# Altium integrated library TI Power Management Battery Management.IntLib: 949 symbols (part 23 of 62)
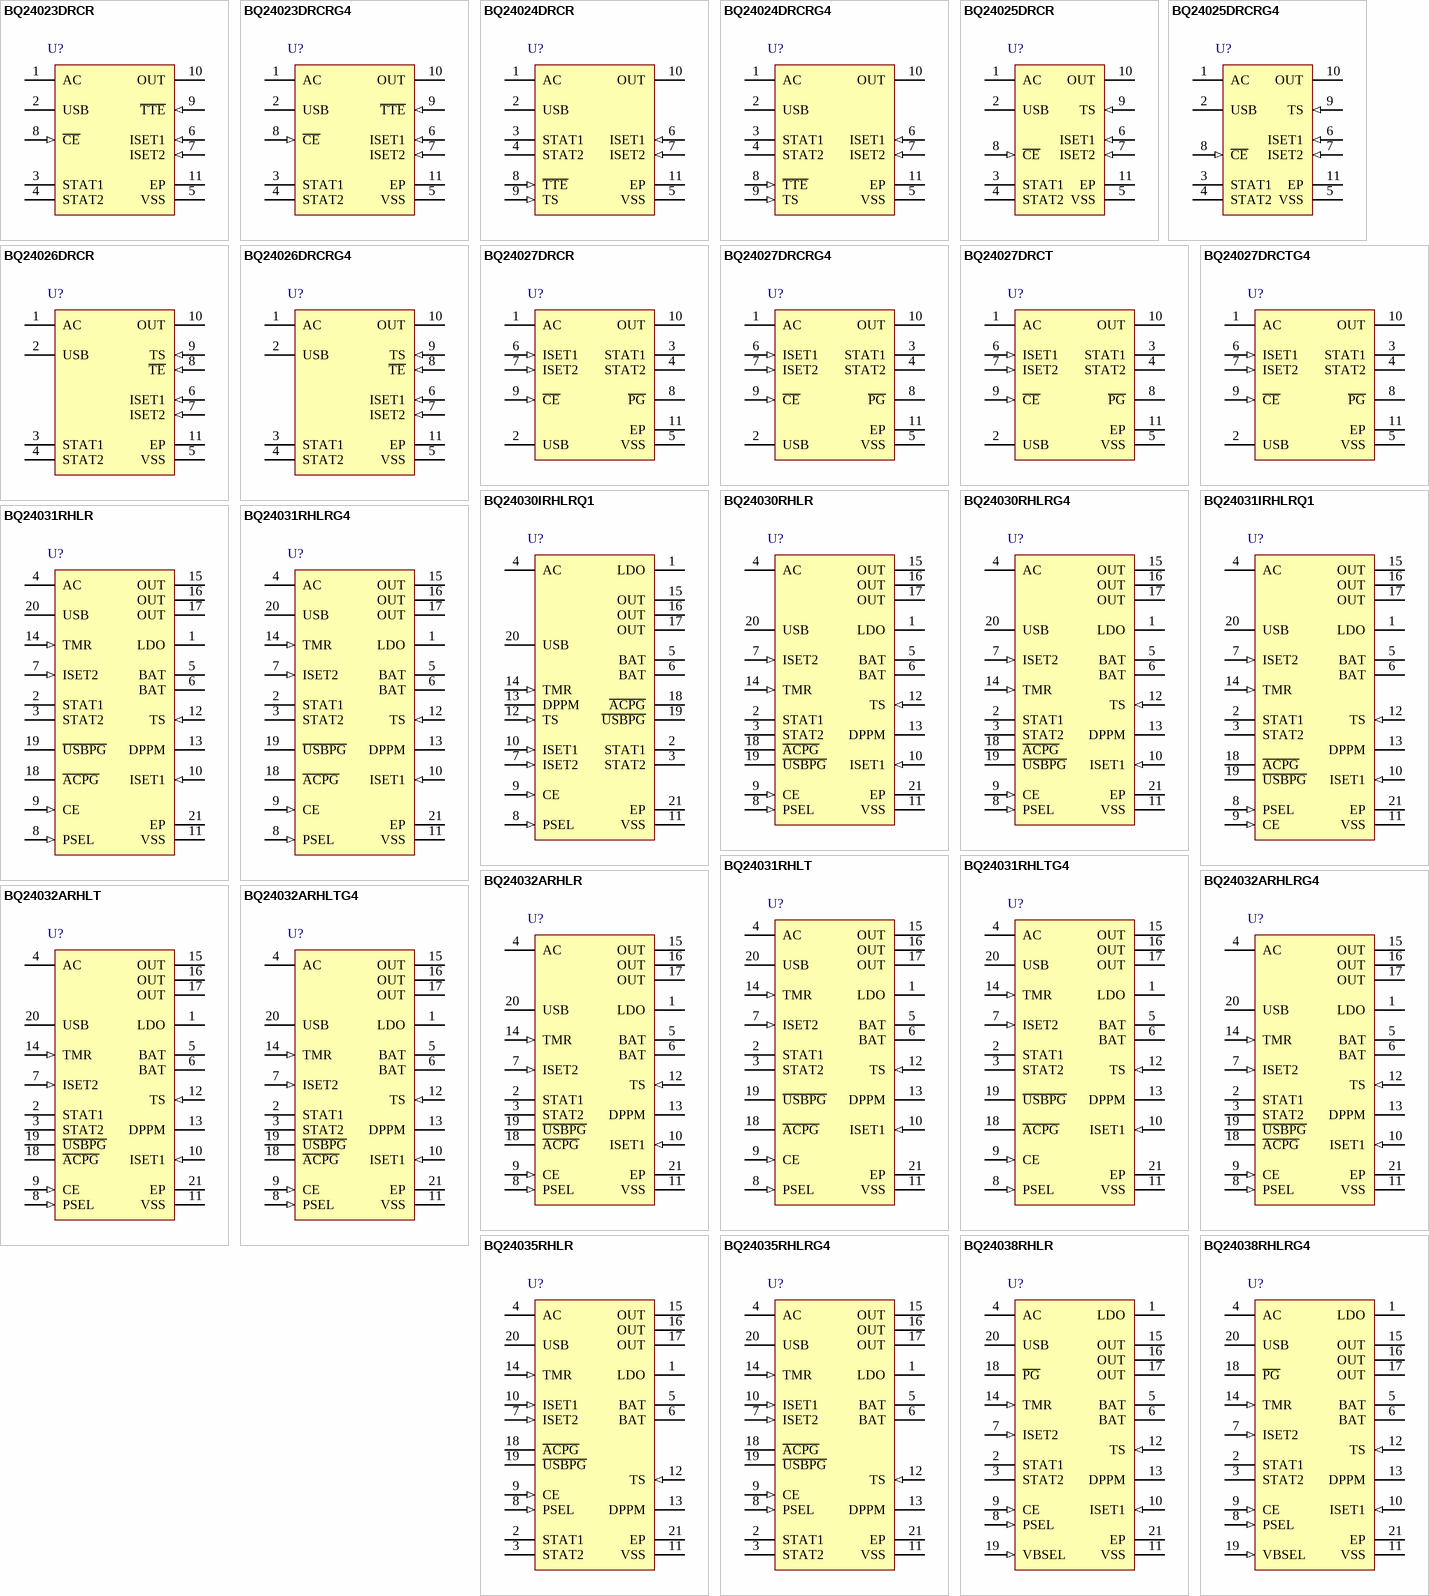
[diagram p56: symbols BQ24023DRCR to BQ24038RHLRG4]

## BQ24031RHLR
designator U?
Dual Input Li-Ion Charger with Dynamic Power-Path Management, Output Regulated to 6 V Battery, 4.3 V, -40 to 125 degC, 20-pin QFN (RHL), Green (RoHS & no Sb/Br); PartNumber: BQ24031RHLR; Manufacturer: Texas Instruments; Lead Acid: N; Li-Ion: Y; SubFamily: Battery Charge Management; Vin(Min)(V): 4.3; DatasheetVersion: SLUS618H; PackageVersion: revJ, Dec-2011; PackageReference: RHL20-3050X2050TP; PackageDescription: 20-Leads Plastic Quad Flatpack No-Lead, 4.5 x 3.5 x 0.9 mm Body, 0.5 mm Pitch, Exposed Pad; Supplier 1: Digi-Key; Supplier Part Number 1: 296-21372-2-ND; Supplier 2: Digi-Key; Supplier Part Number 2: 296-21372-1-ND; Supplier 3: Digi-Key; Supplier Part Number 3: 296-21372-6-ND; Supplier 4: Newark; Supplier Part Number 4: 27M2179; Supplier 5: Mouser; Supplier Part Number 5: 595-BQ24031RHLR; Eco-Plan: Green (RoHS & no Sb/Br); Li-Polymer: Y; NiCd: N; NiMH: N; Over Voltage Protection: N; Mounting Technology: Surface Mount; ComponentLink1Description: Datasheet; ComponentLink1URL: http://www.ti.com/general/docs/lit/getliterature.tsp?genericPartNumber=BQ24031&fileType=pdf
footprint RHL20-3050X2050TP (QFN, 20-Leads, Body 4.5x3.5mm, Pitch 0.5mm, Thermal Pad 3.05x2.05mm, TI Recommended)
pins: 1 LDO (power) "3.3-V LDO regulator", 2 STAT1 (oc) "Charge status output 1 (open-drain)", 3 STAT2 (oc) "Charge status output 2 (open-drain)", 4 AC (power) "Charge input voltage from AC adapter", 5 BAT (power) "Battery input and output.", 6 BAT (power) "Battery input and output.", 7 ISET2 (in) "Charge current set point for USB port. (High = 500 mA, Low = 100 mA)", 8 PSEL (in) "Power source selection input (Low for USB, High for AC)", 9 CE (in) "Chip enable input (active high)", 10 ISET1 (in) "Charge current set point for AC input and precharge and termination set point for both AC and USB", 11 VSS (power) "Ground input (the thermal pad on the underside of the package) There is an internal electrical connection between the exposed thermal pad and VSS pin of the device. The exposed thermal pad must be connected to the same (See Datasheet)", 12 TS (in) "Temperature sense input", 13 DPPM "Dynamic power-path management set point (account for scale factor)", 14 TMR (in) "Timer program input programmed by resistor. Disable fast-charge safety timer and termination by tying TMR to LDO.", 15 OUT (power) "Output terminal to the system", 16 OUT (power) "Output terminal to the system", 17 OUT (power) "Output terminal to the system", 18 ~{ACPG} (oc) "AC power-good status output (open-drain).", 19 ~{USBPG} (oc) "USB power-good status output (open-drain).", 20 USB (power) "USB charge input voltage", 21 EP (power) "Exposed thermal pad"

## BQ24031RHLRG4
designator U?
Dual Input Li-Ion Charger with Dynamic Power-Path Management, Output Regulated to 6 V Battery, 4.3 V, -40 to 125 degC, 20-pin QFN (RHL), Green (RoHS & no Sb/Br); PartNumber: BQ24031RHLRG4; Manufacturer: Texas Instruments; Lead Acid: N; Li-Ion: Y; SubFamily: Battery Charge Management; Vin(Min)(V): 4.3; DatasheetVersion: SLUS618H; PackageVersion: revJ, Dec-2011; PackageReference: RHL20-3050X2050TP; PackageDescription: 20-Leads Plastic Quad Flatpack No-Lead, 4.5 x 3.5 x 0.9 mm Body, 0.5 mm Pitch, Exposed Pad; Supplier 1: Digi-Key; Supplier Part Number 1: BQ24031RHLRG4-ND; Supplier 2: Newark; Supplier Part Number 2: 27M2180; Supplier 3: Mouser; Supplier Part Number 3: 595-BQ24031RHLRG4; Eco-Plan: Green (RoHS & no Sb/Br); Li-Polymer: Y; NiCd: N; NiMH: N; Over Voltage Protection: N; Mounting Technology: Surface Mount; ComponentLink1Description: Datasheet; ComponentLink1URL: http://www.ti.com/general/docs/lit/getliterature.tsp?genericPartNumber=BQ24031&fileType=pdf
footprint RHL20-3050X2050TP (QFN, 20-Leads, Body 4.5x3.5mm, Pitch 0.5mm, Thermal Pad 3.05x2.05mm, TI Recommended)
pins: 1 LDO (power) "3.3-V LDO regulator", 2 STAT1 (oc) "Charge status output 1 (open-drain)", 3 STAT2 (oc) "Charge status output 2 (open-drain)", 4 AC (power) "Charge input voltage from AC adapter", 5 BAT (power) "Battery input and output.", 6 BAT (power) "Battery input and output.", 7 ISET2 (in) "Charge current set point for USB port. (High = 500 mA, Low = 100 mA)", 8 PSEL (in) "Power source selection input (Low for USB, High for AC)", 9 CE (in) "Chip enable input (active high)", 10 ISET1 (in) "Charge current set point for AC input and precharge and termination set point for both AC and USB", 11 VSS (power) "Ground input (the thermal pad on the underside of the package) There is an internal electrical connection between the exposed thermal pad and VSS pin of the device. The exposed thermal pad must be connected to the same (See Datasheet)", 12 TS (in) "Temperature sense input", 13 DPPM "Dynamic power-path management set point (account for scale factor)", 14 TMR (in) "Timer program input programmed by resistor. Disable fast-charge safety timer and termination by tying TMR to LDO.", 15 OUT (power) "Output terminal to the system", 16 OUT (power) "Output terminal to the system", 17 OUT (power) "Output terminal to the system", 18 ~{ACPG} (oc) "AC power-good status output (open-drain).", 19 ~{USBPG} (oc) "USB power-good status output (open-drain).", 20 USB (power) "USB charge input voltage", 21 EP (power) "Exposed thermal pad"

## BQ24031RHLT
designator U?
Dual Input Li-Ion Charger with Dynamic Power-Path Management, Output Regulated to 6 V Battery, 4.3 V, -40 to 125 degC, 20-pin QFN (RHL), Green (RoHS & no Sb/Br); PartNumber: BQ24031RHLT; Manufacturer: Texas Instruments; Lead Acid: N; Li-Ion: Y; SubFamily: Battery Charge Management; Vin(Min)(V): 4.3; DatasheetVersion: SLUS618H; PackageVersion: revJ, Dec-2011; PackageReference: RHL20-3050X2050TP; PackageDescription: 20-Leads Plastic Quad Flatpack No-Lead, 4.5 x 3.5 x 0.9 mm Body, 0.5 mm Pitch, Exposed Pad; Supplier 1: Digi-Key; Supplier Part Number 1: BQ24031RHLT-ND; Supplier 2: Newark; Supplier Part Number 2: 30M3419; Supplier 3: Mouser; Supplier Part Number 3: 595-BQ24031RHLT; Eco-Plan: Green (RoHS & no Sb/Br); Li-Polymer: Y; NiCd: N; NiMH: N; Over Voltage Protection: N; Mounting Technology: Surface Mount; ComponentLink1Description: Datasheet; ComponentLink1URL: http://www.ti.com/general/docs/lit/getliterature.tsp?genericPartNumber=BQ24031&fileType=pdf
footprint RHL20-3050X2050TP (QFN, 20-Leads, Body 4.5x3.5mm, Pitch 0.5mm, Thermal Pad 3.05x2.05mm, TI Recommended)
pins: 1 LDO (power) "3.3-V LDO regulator", 2 STAT1 (oc) "Charge status output 1 (open-drain)", 3 STAT2 (oc) "Charge status output 2 (open-drain)", 4 AC (power) "Charge input voltage from AC adapter", 5 BAT (power) "Battery input and output.", 6 BAT (power) "Battery input and output.", 7 ISET2 (in) "Charge current set point for USB port. (High = 500 mA, Low = 100 mA)", 8 PSEL (in) "Power source selection input (Low for USB, High for AC)", 9 CE (in) "Chip enable input (active high)", 10 ISET1 (in) "Charge current set point for AC input and precharge and termination set point for both AC and USB", 11 VSS (power) "Ground input (the thermal pad on the underside of the package) There is an internal electrical connection between the exposed thermal pad and VSS pin of the device. The exposed thermal pad must be connected to the same (See Datasheet)", 12 TS (in) "Temperature sense input", 13 DPPM "Dynamic power-path management set point (account for scale factor)", 14 TMR (in) "Timer program input programmed by resistor. Disable fast-charge safety timer and termination by tying TMR to LDO.", 15 OUT (power) "Output terminal to the system", 16 OUT (power) "Output terminal to the system", 17 OUT (power) "Output terminal to the system", 18 ~{ACPG} (oc) "AC power-good status output (open-drain).", 19 ~{USBPG} (oc) "USB power-good status output (open-drain).", 20 USB (power) "USB charge input voltage", 21 EP (power) "Exposed thermal pad"

## BQ24031RHLTG4
designator U?
Dual Input Li-Ion Charger with Dynamic Power-Path Management, Output Regulated to 6 V Battery, 4.3 V, -40 to 125 degC, 20-pin QFN (RHL), Green (RoHS & no Sb/Br); PartNumber: BQ24031RHLTG4; Manufacturer: Texas Instruments; Lead Acid: N; Li-Ion: Y; SubFamily: Battery Charge Management; Vin(Min)(V): 4.3; DatasheetVersion: SLUS618H; PackageVersion: revJ, Dec-2011; PackageReference: RHL20-3050X2050TP; PackageDescription: 20-Leads Plastic Quad Flatpack No-Lead, 4.5 x 3.5 x 0.9 mm Body, 0.5 mm Pitch, Exposed Pad; Supplier 1: Digi-Key; Supplier Part Number 1: BQ24031RHLTG4-ND; Supplier 2: Newark; Supplier Part Number 2: 34M2481; Supplier 3: Mouser; Supplier Part Number 3: 595-BQ24031RHLTG4; Eco-Plan: Green (RoHS & no Sb/Br); Li-Polymer: Y; NiCd: N; NiMH: N; Over Voltage Protection: N; Mounting Technology: Surface Mount; ComponentLink1Description: Datasheet; ComponentLink1URL: http://www.ti.com/general/docs/lit/getliterature.tsp?genericPartNumber=BQ24031&fileType=pdf
footprint RHL20-3050X2050TP (QFN, 20-Leads, Body 4.5x3.5mm, Pitch 0.5mm, Thermal Pad 3.05x2.05mm, TI Recommended)
pins: 1 LDO (power) "3.3-V LDO regulator", 2 STAT1 (oc) "Charge status output 1 (open-drain)", 3 STAT2 (oc) "Charge status output 2 (open-drain)", 4 AC (power) "Charge input voltage from AC adapter", 5 BAT (power) "Battery input and output.", 6 BAT (power) "Battery input and output.", 7 ISET2 (in) "Charge current set point for USB port. (High = 500 mA, Low = 100 mA)", 8 PSEL (in) "Power source selection input (Low for USB, High for AC)", 9 CE (in) "Chip enable input (active high)", 10 ISET1 (in) "Charge current set point for AC input and precharge and termination set point for both AC and USB", 11 VSS (power) "Ground input (the thermal pad on the underside of the package) There is an internal electrical connection between the exposed thermal pad and VSS pin of the device. The exposed thermal pad must be connected to the same (See Datasheet)", 12 TS (in) "Temperature sense input", 13 DPPM "Dynamic power-path management set point (account for scale factor)", 14 TMR (in) "Timer program input programmed by resistor. Disable fast-charge safety timer and termination by tying TMR to LDO.", 15 OUT (power) "Output terminal to the system", 16 OUT (power) "Output terminal to the system", 17 OUT (power) "Output terminal to the system", 18 ~{ACPG} (oc) "AC power-good status output (open-drain).", 19 ~{USBPG} (oc) "USB power-good status output (open-drain).", 20 USB (power) "USB charge input voltage", 21 EP (power) "Exposed thermal pad"

## BQ24032ARHLR
designator U?
Dual Input Li-Ion Charger with Dynamic Power Path, Output regulated to 4.4 V, Vbat 4.2 V, 4.3 V, -40 to 85 degC, 20-pin QFN (RHL), Green (RoHS & no Sb/Br); PartNumber: BQ24032ARHLR; Manufacturer: Texas Instruments; Lead Acid: N; Li-Ion: Y; SubFamily: Battery Charge Management; Vin(Min)(V): 4.3; DatasheetVersion: SLUS618H; PackageVersion: revJ, Dec-2011; PackageReference: RHL20-3050X2050TP; PackageDescription: 20-Leads Plastic Quad Flatpack No-Lead, 4.5 x 3.5 x 0.9 mm Body, 0.5 mm Pitch, Exposed Pad; Supplier 1: Digi-Key; Supplier Part Number 1: 296-18285-2-ND; Supplier 2: Digi-Key; Supplier Part Number 2: 296-18285-1-ND; Supplier 3: Digi-Key; Supplier Part Number 3: 296-18285-6-ND; Supplier 4: Newark; Supplier Part Number 4: 43K9063; Supplier 5: Mouser; Supplier Part Number 5: 595-BQ24032ARHLR; Eco-Plan: Green (RoHS & no Sb/Br); Li-Polymer: Y; NiCd: N; NiMH: N; Over Voltage Protection: N; Mounting Technology: Surface Mount; ComponentLink1Description: Datasheet; ComponentLink1URL: http://www.ti.com/general/docs/lit/getliterature.tsp?genericPartNumber=BQ24032A&fileType=pdf
footprint RHL20-3050X2050TP (QFN, 20-Leads, Body 4.5x3.5mm, Pitch 0.5mm, Thermal Pad 3.05x2.05mm, TI Recommended)
pins: 1 LDO (power) "3.3-V LDO regulator", 2 STAT1 (oc) "Charge status output 1 (open-drain)", 3 STAT2 (oc) "Charge status output 2 (open-drain)", 4 AC (power) "Charge input voltage from AC adapter", 5 BAT (power) "Battery input and output.", 6 BAT (power) "Battery input and output.", 7 ISET2 (in) "Charge current set point for USB port. (High = 500 mA, Low = 100 mA)", 8 PSEL (in) "Power source selection input (Low for USB, High for AC)", 9 CE (in) "Chip enable input (active high)", 10 ISET1 (in) "Charge current set point for AC input and precharge and termination set point for both AC and USB", 11 VSS (power) "Ground input (the thermal pad on the underside of the package) There is an internal electrical connection between the exposed thermal pad and VSS pin of the device. The exposed thermal pad must be connected to the same (See Datasheet)", 12 TS (in) "Temperature sense input", 13 DPPM "Dynamic power-path management set point (account for scale factor)", 14 TMR (in) "Timer program input programmed by resistor. Disable fast-charge safety timer and termination by tying TMR to LDO.", 15 OUT (power) "Output terminal to the system", 16 OUT (power) "Output terminal to the system", 17 OUT (power) "Output terminal to the system", 18 ~{ACPG} (oc) "AC power-good status output (open-drain).", 19 ~{USBPG} (oc) "USB power-good status output (open-drain).", 20 USB (power) "USB charge input voltage", 21 EP "Exposed Thermal Pad"

## BQ24032ARHLRG4
designator U?
Dual Input Li-Ion Charger with Dynamic Power Path, Output regulated to 4.4 V, Vbat 4.2 V, 4.3 V, -40 to 85 degC, 20-pin QFN (RHL), Green (RoHS & no Sb/Br); PartNumber: BQ24032ARHLRG4; Manufacturer: Texas Instruments; Lead Acid: N; Li-Ion: Y; SubFamily: Battery Charge Management; Vin(Min)(V): 4.3; DatasheetVersion: SLUS618H; PackageVersion: revJ, Dec-2011; PackageReference: RHL20-3050X2050TP; PackageDescription: 20-Leads Plastic Quad Flatpack No-Lead, 4.5 x 3.5 x 0.9 mm Body, 0.5 mm Pitch, Exposed Pad; Supplier 1: Digi-Key; Supplier Part Number 1: BQ24032ARHLRG4-ND; Supplier 2: Newark; Supplier Part Number 2: 53K9242; Supplier 3: Mouser; Supplier Part Number 3: 595-BQ24032ARHLRG4; Eco-Plan: Green (RoHS & no Sb/Br); Li-Polymer: Y; NiCd: N; NiMH: N; Over Voltage Protection: N; Mounting Technology: Surface Mount; ComponentLink1Description: Datasheet; ComponentLink1URL: http://www.ti.com/general/docs/lit/getliterature.tsp?genericPartNumber=BQ24032A&fileType=pdf
footprint RHL20-3050X2050TP (QFN, 20-Leads, Body 4.5x3.5mm, Pitch 0.5mm, Thermal Pad 3.05x2.05mm, TI Recommended)
pins: 1 LDO (power) "3.3-V LDO regulator", 2 STAT1 (oc) "Charge status output 1 (open-drain)", 3 STAT2 (oc) "Charge status output 2 (open-drain)", 4 AC (power) "Charge input voltage from AC adapter", 5 BAT (power) "Battery input and output.", 6 BAT (power) "Battery input and output.", 7 ISET2 (in) "Charge current set point for USB port. (High = 500 mA, Low = 100 mA)", 8 PSEL (in) "Power source selection input (Low for USB, High for AC)", 9 CE (in) "Chip enable input (active high)", 10 ISET1 (in) "Charge current set point for AC input and precharge and termination set point for both AC and USB", 11 VSS (power) "Ground input (the thermal pad on the underside of the package) There is an internal electrical connection between the exposed thermal pad and VSS pin of the device. The exposed thermal pad must be connected to the same (See Datasheet)", 12 TS (in) "Temperature sense input", 13 DPPM "Dynamic power-path management set point (account for scale factor)", 14 TMR (in) "Timer program input programmed by resistor. Disable fast-charge safety timer and termination by tying TMR to LDO.", 15 OUT (power) "Output terminal to the system", 16 OUT (power) "Output terminal to the system", 17 OUT (power) "Output terminal to the system", 18 ~{ACPG} (oc) "AC power-good status output (open-drain).", 19 ~{USBPG} (oc) "USB power-good status output (open-drain).", 20 USB (power) "USB charge input voltage", 21 EP "Exposed Thermal Pad"

## BQ24032ARHLT
designator U?
Dual Input Li-Ion Charger with Dynamic Power Path, Output regulated to 4.4 V, Vbat 4.2 V, 4.3 V, -40 to 85 degC, 20-pin QFN (RHL), Green (RoHS & no Sb/Br); PartNumber: BQ24032ARHLT; Manufacturer: Texas Instruments; Lead Acid: N; Li-Ion: Y; SubFamily: Battery Charge Management; Vin(Min)(V): 4.3; DatasheetVersion: SLUS618H; PackageVersion: revJ, Dec-2011; PackageReference: RHL20-3050X2050TP; PackageDescription: 20-Leads Plastic Quad Flatpack No-Lead, 4.5 x 3.5 x 0.9 mm Body, 0.5 mm Pitch, Exposed Pad; Supplier 1: Digi-Key; Supplier Part Number 1: 296-25922-2-ND; Supplier 2: Digi-Key; Supplier Part Number 2: 296-25922-1-ND; Supplier 3: Digi-Key; Supplier Part Number 3: 296-25922-6-ND; Supplier 4: Newark; Supplier Part Number 4: 43K9064; Supplier 5: Mouser; Supplier Part Number 5: 595-BQ24032ARHLT; Eco-Plan: Green (RoHS & no Sb/Br); Li-Polymer: Y; NiCd: N; NiMH: N; Over Voltage Protection: N; Mounting Technology: Surface Mount; ComponentLink1Description: Datasheet; ComponentLink1URL: http://www.ti.com/general/docs/lit/getliterature.tsp?genericPartNumber=BQ24032A&fileType=pdf
footprint RHL20-3050X2050TP (QFN, 20-Leads, Body 4.5x3.5mm, Pitch 0.5mm, Thermal Pad 3.05x2.05mm, TI Recommended)
pins: 1 LDO (power) "3.3-V LDO regulator", 2 STAT1 (oc) "Charge status output 1 (open-drain)", 3 STAT2 (oc) "Charge status output 2 (open-drain)", 4 AC (power) "Charge input voltage from AC adapter", 5 BAT (power) "Battery input and output.", 6 BAT (power) "Battery input and output.", 7 ISET2 (in) "Charge current set point for USB port. (High = 500 mA, Low = 100 mA)", 8 PSEL (in) "Power source selection input (Low for USB, High for AC)", 9 CE (in) "Chip enable input (active high)", 10 ISET1 (in) "Charge current set point for AC input and precharge and termination set point for both AC and USB", 11 VSS (power) "Ground input (the thermal pad on the underside of the package) There is an internal electrical connection between the exposed thermal pad and VSS pin of the device. The exposed thermal pad must be connected to the same (See Datasheet)", 12 TS (in) "Temperature sense input", 13 DPPM "Dynamic power-path management set point (account for scale factor)", 14 TMR (in) "Timer program input programmed by resistor. Disable fast-charge safety timer and termination by tying TMR to LDO.", 15 OUT (power) "Output terminal to the system", 16 OUT (power) "Output terminal to the system", 17 OUT (power) "Output terminal to the system", 18 ~{ACPG} (oc) "AC power-good status output (open-drain).", 19 ~{USBPG} (oc) "USB power-good status output (open-drain).", 20 USB (power) "USB charge input voltage", 21 EP "Exposed Thermal Pad"

## BQ24032ARHLTG4
designator U?
Dual Input Li-Ion Charger with Dynamic Power Path, Output regulated to 4.4 V, Vbat 4.2 V, 4.3 V, -40 to 85 degC, 20-pin QFN (RHL), Green (RoHS & no Sb/Br); PartNumber: BQ24032ARHLTG4; Manufacturer: Texas Instruments; Lead Acid: N; Li-Ion: Y; SubFamily: Battery Charge Management; Vin(Min)(V): 4.3; DatasheetVersion: SLUS618H; PackageVersion: revJ, Dec-2011; PackageReference: RHL20-3050X2050TP; PackageDescription: 20-Leads Plastic Quad Flatpack No-Lead, 4.5 x 3.5 x 0.9 mm Body, 0.5 mm Pitch, Exposed Pad; Supplier 1: Digi-Key; Supplier Part Number 1: BQ24032ARHLTG4-ND; Supplier 2: Newark; Supplier Part Number 2: 58K5581; Supplier 3: Mouser; Supplier Part Number 3: 595-BQ24032ARHLTG4; Eco-Plan: Green (RoHS & no Sb/Br); Li-Polymer: Y; NiCd: N; NiMH: N; Over Voltage Protection: N; Mounting Technology: Surface Mount; ComponentLink1Description: Datasheet; ComponentLink1URL: http://www.ti.com/general/docs/lit/getliterature.tsp?genericPartNumber=BQ24032A&fileType=pdf
footprint RHL20-3050X2050TP (QFN, 20-Leads, Body 4.5x3.5mm, Pitch 0.5mm, Thermal Pad 3.05x2.05mm, TI Recommended)
pins: 1 LDO (power) "3.3-V LDO regulator", 2 STAT1 (oc) "Charge status output 1 (open-drain)", 3 STAT2 (oc) "Charge status output 2 (open-drain)", 4 AC (power) "Charge input voltage from AC adapter", 5 BAT (power) "Battery input and output.", 6 BAT (power) "Battery input and output.", 7 ISET2 (in) "Charge current set point for USB port. (High = 500 mA, Low = 100 mA)", 8 PSEL (in) "Power source selection input (Low for USB, High for AC)", 9 CE (in) "Chip enable input (active high)", 10 ISET1 (in) "Charge current set point for AC input and precharge and termination set point for both AC and USB", 11 VSS (power) "Ground input (the thermal pad on the underside of the package) There is an internal electrical connection between the exposed thermal pad and VSS pin of the device. The exposed thermal pad must be connected to the same (See Datasheet)", 12 TS (in) "Temperature sense input", 13 DPPM "Dynamic power-path management set point (account for scale factor)", 14 TMR (in) "Timer program input programmed by resistor. Disable fast-charge safety timer and termination by tying TMR to LDO.", 15 OUT (power) "Output terminal to the system", 16 OUT (power) "Output terminal to the system", 17 OUT (power) "Output terminal to the system", 18 ~{ACPG} (oc) "AC power-good status output (open-drain).", 19 ~{USBPG} (oc) "USB power-good status output (open-drain).", 20 USB (power) "USB charge input voltage", 21 EP "Exposed Thermal Pad"

## BQ24035RHLR
designator U?
Dual Input Li-Ion Charger with Dynamic Power Path, Output Cutoff at 6 V, Vbat 4.2 V, 4.3 V, -40 to 85 degC, 20-pin QFN (RHL), Green (RoHS & no Sb/Br); PartNumber: BQ24035RHLR; Manufacturer: Texas Instruments; Lead Acid: N; Li-Ion: Y; SubFamily: Battery Charge Management; Vin(Min)(V): 4.3; DatasheetVersion: SLUS618H; PackageVersion: revJ, Dec-2011; PackageReference: RHL20-3050X2050TP; PackageDescription: 20-Leads Plastic Quad Flatpack No-Lead, 4.5 x 3.5 x 0.9 mm Body, 0.5 mm Pitch, Exposed Pad; Supplier 1: Digi-Key; Supplier Part Number 1: 296-17803-2-ND; Supplier 2: Digi-Key; Supplier Part Number 2: 296-17803-1-ND; Supplier 3: Digi-Key; Supplier Part Number 3: 296-17803-6-ND; Supplier 4: Newark; Supplier Part Number 4: 24K4390; Supplier 5: Mouser; Supplier Part Number 5: 595-BQ24035RHLR; Eco-Plan: Green (RoHS & no Sb/Br); Li-Polymer: Y; NiCd: N; NiMH: N; Over Voltage Protection: N; Mounting Technology: Surface Mount; ComponentLink1Description: Datasheet; ComponentLink1URL: http://www.ti.com/general/docs/lit/getliterature.tsp?genericPartNumber=BQ24035&fileType=pdf
footprint RHL20-3050X2050TP (QFN, 20-Leads, Body 4.5x3.5mm, Pitch 0.5mm, Thermal Pad 3.05x2.05mm, TI Recommended)
pins: 1 LDO (power) "3.3-V LDO regulator", 2 STAT1 (oc) "Charge status output 1 (open-drain)", 3 STAT2 (oc) "Charge status output 2 (open-drain)", 4 AC (power) "Charge input voltage from AC adapter", 5 BAT (power) "Battery input and output.", 6 BAT (power) "Battery input and output.", 7 ISET2 (in) "Charge current set point for USB port. (High = 500 mA, Low = 100 mA)", 8 PSEL (in) "Power source selection input (Low for USB, High for AC)", 9 CE (in) "Chip enable input (active high)", 10 ISET1 (in) "Charge current set point for AC input and precharge and termination set point for both AC and USB", 11 VSS (power) "Ground input (the thermal pad on the underside of the package) There is an internal electrical connection between the exposed thermal pad and VSS pin of the device. The exposed thermal pad must be connected to the same (See Datasheet)", 12 TS (in) "Temperature sense input", 13 DPPM "Dynamic power-path management set point (account for scale factor)", 14 TMR (in) "Timer program input programmed by resistor. Disable fast-charge safety timer and termination by tying TMR to LDO.", 15 OUT (power) "Output terminal to the system", 16 OUT (power) "Output terminal to the system", 17 OUT (power) "Output terminal to the system", 18 ~{ACPG} (oc) "AC power-good status output (open-drain)", 19 ~{USBPG} (oc) "USB power-good status output (open-drain)", 20 USB (power) "USB charge input voltage", 21 EP (power) "Exposed thermal pad"

## BQ24035RHLRG4
designator U?
Dual Input Li-Ion Charger with Dynamic Power Path, Output Cutoff at 6 V, Vbat 4.2 V, 4.3 V, -40 to 85 degC, 20-pin QFN (RHL), Green (RoHS & no Sb/Br); PartNumber: BQ24035RHLRG4; Manufacturer: Texas Instruments; Lead Acid: N; Li-Ion: Y; SubFamily: Battery Charge Management; Vin(Min)(V): 4.3; DatasheetVersion: SLUS618H; PackageVersion: revJ, Dec-2011; PackageReference: RHL20-3050X2050TP; PackageDescription: 20-Leads Plastic Quad Flatpack No-Lead, 4.5 x 3.5 x 0.9 mm Body, 0.5 mm Pitch, Exposed Pad; Supplier 1: Digi-Key; Supplier Part Number 1: BQ24035RHLRG4-ND; Supplier 2: Newark; Supplier Part Number 2: 24K4391; Supplier 3: Mouser; Supplier Part Number 3: 595-BQ24035RHLRG4; Eco-Plan: Green (RoHS & no Sb/Br); Li-Polymer: Y; NiCd: N; NiMH: N; Over Voltage Protection: N; Mounting Technology: Surface Mount; ComponentLink1Description: Datasheet; ComponentLink1URL: http://www.ti.com/general/docs/lit/getliterature.tsp?genericPartNumber=BQ24035&fileType=pdf
footprint RHL20-3050X2050TP (QFN, 20-Leads, Body 4.5x3.5mm, Pitch 0.5mm, Thermal Pad 3.05x2.05mm, TI Recommended)
pins: 1 LDO (power) "3.3-V LDO regulator", 2 STAT1 (oc) "Charge status output 1 (open-drain)", 3 STAT2 (oc) "Charge status output 2 (open-drain)", 4 AC (power) "Charge input voltage from AC adapter", 5 BAT (power) "Battery input and output.", 6 BAT (power) "Battery input and output.", 7 ISET2 (in) "Charge current set point for USB port. (High = 500 mA, Low = 100 mA)", 8 PSEL (in) "Power source selection input (Low for USB, High for AC)", 9 CE (in) "Chip enable input (active high)", 10 ISET1 (in) "Charge current set point for AC input and precharge and termination set point for both AC and USB", 11 VSS (power) "Ground input (the thermal pad on the underside of the package) There is an internal electrical connection between the exposed thermal pad and VSS pin of the device. The exposed thermal pad must be connected to the same (See Datasheet)", 12 TS (in) "Temperature sense input", 13 DPPM "Dynamic power-path management set point (account for scale factor)", 14 TMR (in) "Timer program input programmed by resistor. Disable fast-charge safety timer and termination by tying TMR to LDO.", 15 OUT (power) "Output terminal to the system", 16 OUT (power) "Output terminal to the system", 17 OUT (power) "Output terminal to the system", 18 ~{ACPG} (oc) "AC power-good status output (open-drain)", 19 ~{USBPG} (oc) "USB power-good status output (open-drain)", 20 USB (power) "USB charge input voltage", 21 EP (power) "Exposed thermal pad"

## BQ24038RHLR
designator U?
Dual Input Li-Ion Charger with Dynamic Power Path, Output regulated to 4.4 V, Vbat 4.4 V, 4.3 V, -40 to 85 degC, 20-pin QFN (RHL), Green (RoHS & no Sb/Br); PartNumber: BQ24038RHLR; Manufacturer: Texas Instruments; Lead Acid: N; Li-Ion: Y; SubFamily: Battery Charge Management; Vin(Min)(V): 4.3; DatasheetVersion: SLUS618H; PackageVersion: revJ, Dec-2011; PackageReference: RHL20-3050X2050TP; PackageDescription: 20-Leads Plastic Quad Flatpack No-Lead, 4.5 x 3.5 x 0.9 mm Body, 0.5 mm Pitch, Exposed Pad; Supplier 1: Digi-Key; Supplier Part Number 1: BQ24038RHLR-ND; Supplier 2: Newark; Supplier Part Number 2: 52K5707; Supplier 3: Mouser; Supplier Part Number 3: 595-BQ24038RHLR; Eco-Plan: Green (RoHS & no Sb/Br); Li-Polymer: Y; NiCd: N; NiMH: N; Over Voltage Protection: N; Mounting Technology: Surface Mount; ComponentLink1Description: Datasheet; ComponentLink1URL: http://www.ti.com/general/docs/lit/getliterature.tsp?genericPartNumber=BQ24038&fileType=pdf
footprint RHL20-3050X2050TP (QFN, 20-Leads, Body 4.5x3.5mm, Pitch 0.5mm, Thermal Pad 3.05x2.05mm, TI Recommended)
pins: 1 LDO (power) "3.3-V LDO regulator", 2 STAT1 (oc) "Charge status output 1 (open-drain)", 3 STAT2 (oc) "Charge status output 2 (open-drain)", 4 AC (power) "Charge input voltage from AC adapter", 5 BAT (power) "Battery input and output.", 6 BAT (power) "Battery input and output.", 7 ISET2 (in) "Charge current set point for USB port. (High = 500 mA, Low = 100 mA)", 8 PSEL (in) "Power source selection input (Low for USB, High for AC)", 9 CE (in) "Chip enable input (active high)", 10 ISET1 (in) "Charge current set point for AC input and precharge and termination set point for both AC and USB", 11 VSS (power) "Ground input (the thermal pad on the underside of the package) There is an internal electrical connection between the exposed thermal pad and VSS pin of the device. The exposed thermal pad must be connected to the same (See Datasheet)", 12 TS (in) "Temperature sense input", 13 DPPM "Dynamic power-path management set point (account for scale factor)", 14 TMR (in) "Timer program input programmed by resistor. Disable fast-charge safety timer and termination by tying TMR to LDO.", 15 OUT (power) "Output terminal to the system", 16 OUT (power) "Output terminal to the system", 17 OUT (power) "Output terminal to the system", 18 ~{PG} (oc) "AC or USB power-good status output (open-drain)", 19 VBSEL (in) "Battery charge voltage selection", 20 USB (power) "USB charge input voltage", 21 EP (power) "Exposed Paddle"

## BQ24038RHLRG4
designator U?
Dual Input Li-Ion Charger with Dynamic Power Path, Output regulated to 4.4 V, Vbat 4.4 V, 4.3 V, -40 to 85 degC, 20-pin QFN (RHL), Green (RoHS & no Sb/Br); PartNumber: BQ24038RHLRG4; Manufacturer: Texas Instruments; Lead Acid: N; Li-Ion: Y; SubFamily: Battery Charge Management; Vin(Min)(V): 4.3; DatasheetVersion: SLUS618H; PackageVersion: revJ, Dec-2011; PackageReference: RHL20-3050X2050TP; PackageDescription: 20-Leads Plastic Quad Flatpack No-Lead, 4.5 x 3.5 x 0.9 mm Body, 0.5 mm Pitch, Exposed Pad; Supplier 1: Digi-Key; Supplier Part Number 1: BQ24038RHLRG4-ND; Supplier 2: Newark; Supplier Part Number 2: 66K1458; Supplier 3: Mouser; Supplier Part Number 3: 595-BQ24038RHLRG4; Eco-Plan: Green (RoHS & no Sb/Br); Li-Polymer: Y; NiCd: N; NiMH: N; Over Voltage Protection: N; Mounting Technology: Surface Mount; ComponentLink1Description: Datasheet; ComponentLink1URL: http://www.ti.com/general/docs/lit/getliterature.tsp?genericPartNumber=BQ24038&fileType=pdf
footprint RHL20-3050X2050TP (QFN, 20-Leads, Body 4.5x3.5mm, Pitch 0.5mm, Thermal Pad 3.05x2.05mm, TI Recommended)
pins: 1 LDO (power) "3.3-V LDO regulator", 2 STAT1 (oc) "Charge status output 1 (open-drain)", 3 STAT2 (oc) "Charge status output 2 (open-drain)", 4 AC (power) "Charge input voltage from AC adapter", 5 BAT (power) "Battery input and output.", 6 BAT (power) "Battery input and output.", 7 ISET2 (in) "Charge current set point for USB port. (High = 500 mA, Low = 100 mA)", 8 PSEL (in) "Power source selection input (Low for USB, High for AC)", 9 CE (in) "Chip enable input (active high)", 10 ISET1 (in) "Charge current set point for AC input and precharge and termination set point for both AC and USB", 11 VSS (power) "Ground input (the thermal pad on the underside of the package) There is an internal electrical connection between the exposed thermal pad and VSS pin of the device. The exposed thermal pad must be connected to the same (See Datasheet)", 12 TS (in) "Temperature sense input", 13 DPPM "Dynamic power-path management set point (account for scale factor)", 14 TMR (in) "Timer program input programmed by resistor. Disable fast-charge safety timer and termination by tying TMR to LDO.", 15 OUT (power) "Output terminal to the system", 16 OUT (power) "Output terminal to the system", 17 OUT (power) "Output terminal to the system", 18 ~{PG} (oc) "AC or USB power-good status output (open-drain)", 19 VBSEL (in) "Battery charge voltage selection", 20 USB (power) "USB charge input voltage", 21 EP (power) "Exposed Paddle"

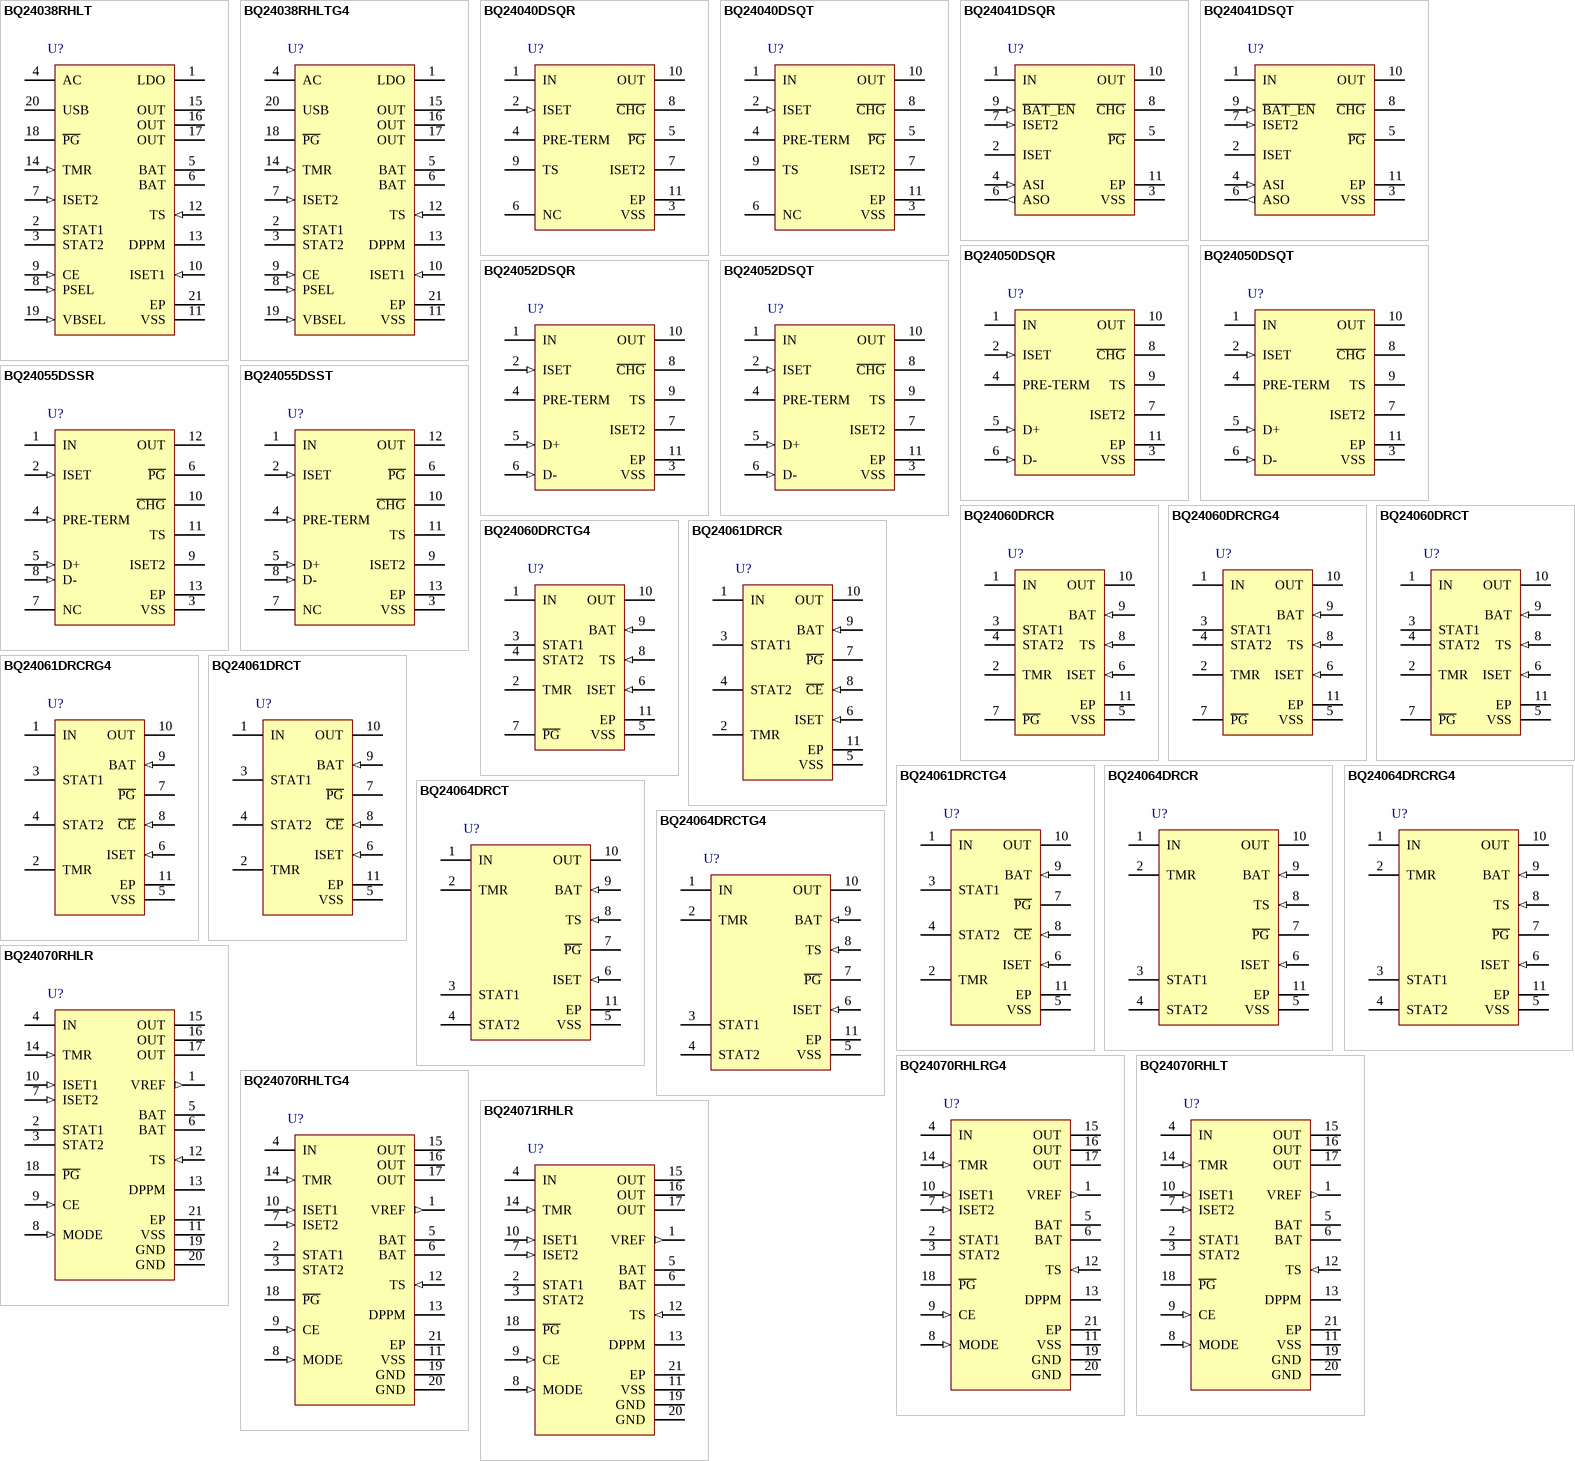
[diagram p14: symbols BQ24038RHLT to BQ24071RHLR]

## BQ24038RHLT
designator U?
Dual Input Li-Ion Charger with Dynamic Power Path, Output regulated to 4.4 V, Vbat 4.4 V, 4.3 V, -40 to 85 degC, 20-pin QFN (RHL), Green (RoHS & no Sb/Br); PartNumber: BQ24038RHLT; Manufacturer: Texas Instruments; Lead Acid: N; Li-Ion: Y; SubFamily: Battery Charge Management; Vin(Min)(V): 4.3; DatasheetVersion: SLUS618H; PackageVersion: revJ, Dec-2011; PackageReference: RHL20-3050X2050TP; PackageDescription: 20-Leads Plastic Quad Flatpack No-Lead, 4.5 x 3.5 x 0.9 mm Body, 0.5 mm Pitch, Exposed Pad; Supplier 1: Digi-Key; Supplier Part Number 1: 296-18286-2-ND; Supplier 2: Digi-Key; Supplier Part Number 2: 296-18286-1-ND; Supplier 3: Digi-Key; Supplier Part Number 3: 296-18286-6-ND; Supplier 4: Newark; Supplier Part Number 4: 52K5708; Supplier 5: Mouser; Supplier Part Number 5: 595-BQ24038RHLT; Eco-Plan: Green (RoHS & no Sb/Br); Li-Polymer: Y; NiCd: N; NiMH: N; Over Voltage Protection: N; Mounting Technology: Surface Mount; ComponentLink1Description: Datasheet; ComponentLink1URL: http://www.ti.com/general/docs/lit/getliterature.tsp?genericPartNumber=BQ24038&fileType=pdf
footprint RHL20-3050X2050TP (QFN, 20-Leads, Body 4.5x3.5mm, Pitch 0.5mm, Thermal Pad 3.05x2.05mm, TI Recommended)
pins: 1 LDO (power) "3.3-V LDO regulator", 2 STAT1 (oc) "Charge status output 1 (open-drain)", 3 STAT2 (oc) "Charge status output 2 (open-drain)", 4 AC (power) "Charge input voltage from AC adapter", 5 BAT (power) "Battery input and output.", 6 BAT (power) "Battery input and output.", 7 ISET2 (in) "Charge current set point for USB port. (High = 500 mA, Low = 100 mA)", 8 PSEL (in) "Power source selection input (Low for USB, High for AC)", 9 CE (in) "Chip enable input (active high)", 10 ISET1 (in) "Charge current set point for AC input and precharge and termination set point for both AC and USB", 11 VSS (power) "Ground input (the thermal pad on the underside of the package) There is an internal electrical connection between the exposed thermal pad and VSS pin of the device. The exposed thermal pad must be connected to the same (See Datasheet)", 12 TS (in) "Temperature sense input", 13 DPPM "Dynamic power-path management set point (account for scale factor)", 14 TMR (in) "Timer program input programmed by resistor. Disable fast-charge safety timer and termination by tying TMR to LDO.", 15 OUT (power) "Output terminal to the system", 16 OUT (power) "Output terminal to the system", 17 OUT (power) "Output terminal to the system", 18 ~{PG} (oc) "AC or USB power-good status output (open-drain)", 19 VBSEL (in) "Battery charge voltage selection", 20 USB (power) "USB charge input voltage", 21 EP (power) "Exposed Paddle"

## BQ24038RHLTG4
designator U?
Dual Input Li-Ion Charger with Dynamic Power Path, Output regulated to 4.4 V, Vbat 4.4 V, 4.3 V, -40 to 85 degC, 20-pin QFN (RHL), Green (RoHS & no Sb/Br); PartNumber: BQ24038RHLTG4; Manufacturer: Texas Instruments; Lead Acid: N; Li-Ion: Y; SubFamily: Battery Charge Management; Vin(Min)(V): 4.3; DatasheetVersion: SLUS618H; PackageVersion: revJ, Dec-2011; PackageReference: RHL20-3050X2050TP; PackageDescription: 20-Leads Plastic Quad Flatpack No-Lead, 4.5 x 3.5 x 0.9 mm Body, 0.5 mm Pitch, Exposed Pad; Supplier 1: Digi-Key; Supplier Part Number 1: BQ24038RHLTG4-ND; Supplier 2: Newark; Supplier Part Number 2: 66K1459; Supplier 3: Mouser; Supplier Part Number 3: 595-BQ24038RHLTG4; Eco-Plan: Green (RoHS & no Sb/Br); Li-Polymer: Y; NiCd: N; NiMH: N; Over Voltage Protection: N; Mounting Technology: Surface Mount; ComponentLink1Description: Datasheet; ComponentLink1URL: http://www.ti.com/general/docs/lit/getliterature.tsp?genericPartNumber=BQ24038&fileType=pdf
footprint RHL20-3050X2050TP (QFN, 20-Leads, Body 4.5x3.5mm, Pitch 0.5mm, Thermal Pad 3.05x2.05mm, TI Recommended)
pins: 1 LDO (power) "3.3-V LDO regulator", 2 STAT1 (oc) "Charge status output 1 (open-drain)", 3 STAT2 (oc) "Charge status output 2 (open-drain)", 4 AC (power) "Charge input voltage from AC adapter", 5 BAT (power) "Battery input and output.", 6 BAT (power) "Battery input and output.", 7 ISET2 (in) "Charge current set point for USB port. (High = 500 mA, Low = 100 mA)", 8 PSEL (in) "Power source selection input (Low for USB, High for AC)", 9 CE (in) "Chip enable input (active high)", 10 ISET1 (in) "Charge current set point for AC input and precharge and termination set point for both AC and USB", 11 VSS (power) "Ground input (the thermal pad on the underside of the package) There is an internal electrical connection between the exposed thermal pad and VSS pin of the device. The exposed thermal pad must be connected to the same (See Datasheet)", 12 TS (in) "Temperature sense input", 13 DPPM "Dynamic power-path management set point (account for scale factor)", 14 TMR (in) "Timer program input programmed by resistor. Disable fast-charge safety timer and termination by tying TMR to LDO.", 15 OUT (power) "Output terminal to the system", 16 OUT (power) "Output terminal to the system", 17 OUT (power) "Output terminal to the system", 18 ~{PG} (oc) "AC or USB power-good status output (open-drain)", 19 VBSEL (in) "Battery charge voltage selection", 20 USB (power) "USB charge input voltage", 21 EP (power) "Exposed Paddle"

## BQ24040DSQR
designator U?
800 mA, Single-Input, Single Cell Li-Ion Battery Charger with Auto Start. Vovp=6.6 V, 3.5 V, -40 to 85 degC, 10-pin SON (DSQ), Green (RoHS & no Sb/Br); PartNumber: BQ24040DSQR; Manufacturer: Texas Instruments; Lead Acid: N; SubFamily: Battery Charge Management; Vin(Min)(V): 3.5; DatasheetVersion: SLUS941A; PackageVersion: revB, Apr-2010; PackageReference: DSQ10-1500X900TP; PackageDescription: 10-Pin Plastic Small Outline No-Lead, 2 x 2 x 0.8 mm Body, 0.4 mm Pitch, Exposed Pad; Supplier 1: Digi-Key; Supplier Part Number 1: BQ24040DSQR-ND; Supplier 2: Newark; Supplier Part Number 2: 50R7512; Supplier 3: Mouser; Supplier Part Number 3: 595-BQ24040DSQR; Eco-Plan: Green (RoHS & no Sb/Br); Li-Ion: N; Li-Polymer: N; NiCd: N; NiMH: N; Over Voltage Protection: N; Mounting Technology: Surface Mount; ComponentLink1Description: Datasheet; ComponentLink1URL: http://www.ti.com/general/docs/lit/getliterature.tsp?genericPartNumber=BQ24040&fileType=pdf
footprint DSQ10-1500X900TP (SON, 10-Leads, Body 2x2mm, Pitch 0.4mm, Thermal Pad 1.5x0.9mm, TI Recommended)
pins: 1 IN (power) "Input power, connected to external DC supply (AC adapter or USB port). Expected range of bypass capacitors 1uF to 10 uF, connect from IN to VSS.", 2 ISET (in) "Programs the Fast-charge current setting. External resistor from ISET to VSS defines fast charge current value. Range is 10.8k (50mA) to 675 ohm (800mA).", 3 VSS (power) "Ground terminal", 4 PRE-TERM "Programs the Current Termination Threshold (5 to 50% of lout which is set by ISET) and Sets the Pre-Charge Current to twice the Termination Current Level. Expected range of programming resistor is 1k to 10k ohm (2k: Ipgm/10 for (See Datasheet)", 5 ~{PG} (hiz) "Low (FET on) indicates the input voltage is above UVLO and the OUT (battery) voltage.", 6 NC "Do not make a connection to this pin (for internal use) - Do not route through this pin", 7 ISET2 "Programming the Input/Output Current Limit for the USB or Adaptor source: bq24040 => High = 500mAmax, Low = ISET, FLOAT = 100mAmax.", 8 ~{CHG} (hiz) "Low (FET on) indicates charging and Open Drain (FET off) indicates no Charging or Charge complete.", 9 TS "Temperature sense pin connected to bq24040 -10k at 25degreesC NTC thermistor, in the battery pack. Floating TS Pin or pulling High puts part in TTDM Charger Mode and disable TS monitoring, Timers and Termination. Pulling (See Datasheet)", 10 OUT (power) "Battery Connection. System Load may be connected. Average load should not be excessive, allowing battery to charge within the 10 hour safety timer window. Expected range of bypass capacitors 1uF to 10uF.", 11 EP (power) "There is an internal electrical connection between the exposed thermal pad and the VSS pin of the device. Thermal pad must be connected to the same potential as the VSS pin on the printed circuit board. Do not use the (See Datasheet)"

## BQ24040DSQT
designator U?
800 mA, Single-Input, Single Cell Li-Ion Battery Charger with Auto Start. Vovp=6.6 V, 3.5 V, -40 to 85 degC, 10-pin SON (DSQ), Green (RoHS & no Sb/Br); PartNumber: BQ24040DSQT; Manufacturer: Texas Instruments; Lead Acid: N; SubFamily: Battery Charge Management; Vin(Min)(V): 3.5; DatasheetVersion: SLUS941A; PackageVersion: revB, Apr-2010; PackageReference: DSQ10-1500X900TP; PackageDescription: 10-Pin Plastic Small Outline No-Lead, 2 x 2 x 0.8 mm Body, 0.4 mm Pitch, Exposed Pad; Supplier 1: Digi-Key; Supplier Part Number 1: 296-25136-2-ND; Supplier 2: Digi-Key; Supplier Part Number 2: 296-25136-1-ND; Supplier 3: Digi-Key; Supplier Part Number 3: 296-25136-6-ND; Supplier 4: Farnell; Supplier Part Number 4: 1771740; Supplier 5: Farnell; Supplier Part Number 5: 1771740RL; Supplier 6: Newark; Supplier Part Number 6: 29R0264; Supplier 7: Mouser; Supplier Part Number 7: 595-BQ24040DSQT; Eco-Plan: Green (RoHS & no Sb/Br); Li-Ion: N; Li-Polymer: N; NiCd: N; NiMH: N; Over Voltage Protection: N; Mounting Technology: Surface Mount; ComponentLink1Description: Datasheet; ComponentLink1URL: http://www.ti.com/general/docs/lit/getliterature.tsp?genericPartNumber=BQ24040&fileType=pdf
footprint DSQ10-1500X900TP (SON, 10-Leads, Body 2x2mm, Pitch 0.4mm, Thermal Pad 1.5x0.9mm, TI Recommended)
pins: 1 IN (power) "Input power, connected to external DC supply (AC adapter or USB port). Expected range of bypass capacitors 1uF to 10 uF, connect from IN to VSS.", 2 ISET (in) "Programs the Fast-charge current setting. External resistor from ISET to VSS defines fast charge current value. Range is 10.8k (50mA) to 675 ohm (800mA).", 3 VSS (power) "Ground terminal", 4 PRE-TERM "Programs the Current Termination Threshold (5 to 50% of lout which is set by ISET) and Sets the Pre-Charge Current to twice the Termination Current Level. Expected range of programming resistor is 1k to 10k ohm (2k: Ipgm/10 for (See Datasheet)", 5 ~{PG} (hiz) "Low (FET on) indicates the input voltage is above UVLO and the OUT (battery) voltage.", 6 NC "Do not make a connection to this pin (for internal use) - Do not route through this pin", 7 ISET2 "Programming the Input/Output Current Limit for the USB or Adaptor source: bq24040 => High = 500mAmax, Low = ISET, FLOAT = 100mAmax.", 8 ~{CHG} (hiz) "Low (FET on) indicates charging and Open Drain (FET off) indicates no Charging or Charge complete.", 9 TS "Temperature sense pin connected to bq24040 -10k at 25degreesC NTC thermistor, in the battery pack. Floating TS Pin or pulling High puts part in TTDM Charger Mode and disable TS monitoring, Timers and Termination. Pulling (See Datasheet)", 10 OUT (power) "Battery Connection. System Load may be connected. Average load should not be excessive, allowing battery to charge within the 10 hour safety timer window. Expected range of bypass capacitors 1uF to 10uF.", 11 EP (power) "There is an internal electrical connection between the exposed thermal pad and the VSS pin of the device. Thermal pad must be connected to the same potential as the VSS pin on the printed circuit board. Do not use the (See Datasheet)"

## BQ24041DSQR
designator U?
800 mA, Single-Input, Single Cell Li-Ion Battery Charger with Auto Start. Vovp=7.1 V, 3.5 V, 10-pin SON (DSQ), Green (RoHS & no Sb/Br); PartNumber: BQ24041DSQR; Manufacturer: Texas Instruments; Lead Acid: N; SubFamily: Battery Charge Management; Vin(Min)(V): 3.5; DatasheetVersion: SLUS941A; PackageVersion: revB, Apr-2010; PackageReference: DSQ10-1500X900TP; PackageDescription: 10-Pin Plastic Small Outline No-Lead, 2 x 2 x 0.8 mm Body, 0.4 mm Pitch, Exposed Pad; Supplier 1: Digi-Key; Supplier Part Number 1: BQ24041DSQR-ND; Supplier 2: Mouser; Supplier Part Number 2: 595-BQ24041DSQR; Eco-Plan: Green (RoHS & no Sb/Br); Li-Ion: N; Li-Polymer: N; NiCd: N; NiMH: N; Over Voltage Protection: N; Mounting Technology: Surface Mount; ComponentLink1Description: Datasheet; ComponentLink1URL: http://www.ti.com/general/docs/lit/getliterature.tsp?genericPartNumber=BQ24041&fileType=pdf
footprint DSQ10-1500X900TP (SON, 10-Leads, Body 2x2mm, Pitch 0.4mm, Thermal Pad 1.5x0.9mm, TI Recommended)
pins: 1 IN (power) "Input power, connected to external DC supply (AC adapter or USB port). Expected range of bypass capacitors 1uF to 10 uF, connect from IN to VSS.", 2 ISET "Programs the Fast-charge current setting. External resistor from ISET to VSS defines fast charge current value. Range is 10.8k (50mA) to 675 ohm (800mA).", 3 VSS (power) "Ground terminal", 4 ASI (in) "Auto start External input. Internal 200kohm pull-down.", 5 ~{PG} (hiz) "Low (FET on) indicates the input voltage is above UVLO and the OUT (battery) voltage.", 6 ASO (out) "Auto Start Logic Output", 7 ISET2 (in) "Programming the Input/Output Current Limit for the USB or Adaptor source: bq24041 => High = 410mAmax, Low = ISET, FLOAT = 100mAmax.", 8 ~{CHG} (hiz) "Low (FET on) indicates charging and Open Drain (FET off) indicates no Charging or Charge complete.", 9 ~{BAT_EN} (in) "Charge Enable Input (active low); 200k Internal Pull-down", 10 OUT (power) "Battery Connection. System Load may be connected. Average load should not be excessive, allowing battery to charge within the 10 hour safety timer window. Expected range of bypass capacitors 1uF to 10uF.", 11 EP (power) "There is an internal electrical connection between the exposed thermal pad and the VSS pin of the device. Thermal pad must be connected to the same potential as the VSS pin on the printed circuit board. Do not use the (See Datasheet)"

## BQ24041DSQT
designator U?
800 mA, Single-Input, Single Cell Li-Ion Battery Charger with Auto Start. Vovp=7.1 V, 3.5 V, 10-pin SON (DSQ), Green (RoHS & no Sb/Br); PartNumber: BQ24041DSQT; Manufacturer: Texas Instruments; Lead Acid: N; SubFamily: Battery Charge Management; Vin(Min)(V): 3.5; DatasheetVersion: SLUS941A; PackageVersion: revB, Apr-2010; PackageReference: DSQ10-1500X900TP; PackageDescription: 10-Pin Plastic Small Outline No-Lead, 2 x 2 x 0.8 mm Body, 0.4 mm Pitch, Exposed Pad; Supplier 1: Digi-Key; Supplier Part Number 1: 296-25137-2-ND; Supplier 2: Digi-Key; Supplier Part Number 2: 296-25137-1-ND; Supplier 3: Digi-Key; Supplier Part Number 3: 296-25137-6-ND; Supplier 4: Newark; Supplier Part Number 4: 50R7514; Supplier 5: Mouser; Supplier Part Number 5: 595-BQ24041DSQT; Eco-Plan: Green (RoHS & no Sb/Br); Li-Ion: N; Li-Polymer: N; NiCd: N; NiMH: N; Over Voltage Protection: N; Mounting Technology: Surface Mount; ComponentLink1Description: Datasheet; ComponentLink1URL: http://www.ti.com/general/docs/lit/getliterature.tsp?genericPartNumber=BQ24041&fileType=pdf
footprint DSQ10-1500X900TP (SON, 10-Leads, Body 2x2mm, Pitch 0.4mm, Thermal Pad 1.5x0.9mm, TI Recommended)
pins: 1 IN (power) "Input power, connected to external DC supply (AC adapter or USB port). Expected range of bypass capacitors 1uF to 10 uF, connect from IN to VSS.", 2 ISET "Programs the Fast-charge current setting. External resistor from ISET to VSS defines fast charge current value. Range is 10.8k (50mA) to 675 ohm (800mA).", 3 VSS (power) "Ground terminal", 4 ASI (in) "Auto start External input. Internal 200kohm pull-down.", 5 ~{PG} (hiz) "Low (FET on) indicates the input voltage is above UVLO and the OUT (battery) voltage.", 6 ASO (out) "Auto Start Logic Output", 7 ISET2 (in) "Programming the Input/Output Current Limit for the USB or Adaptor source: bq24041 => High = 410mAmax, Low = ISET, FLOAT = 100mAmax.", 8 ~{CHG} (hiz) "Low (FET on) indicates charging and Open Drain (FET off) indicates no Charging or Charge complete.", 9 ~{BAT_EN} (in) "Charge Enable Input (active low); 200k Internal Pull-down", 10 OUT (power) "Battery Connection. System Load may be connected. Average load should not be excessive, allowing battery to charge within the 10 hour safety timer window. Expected range of bypass capacitors 1uF to 10uF.", 11 EP (power) "There is an internal electrical connection between the exposed thermal pad and the VSS pin of the device. Thermal pad must be connected to the same potential as the VSS pin on the printed circuit board. Do not use the (See Datasheet)"